# Altium footprint library Flanery.PcbLib: 125 footprints (part 7 of 8)
Each footprint in its own frame and in the unit in brackets; x right, y up, seen from the top. Pads: shape width x height; smd on the part's side, far side on the other; paste and mask are expansions set on the pad; w line width, h text height; cw(c..) or ccw(c..) is an arc to the next point about the centre after c.
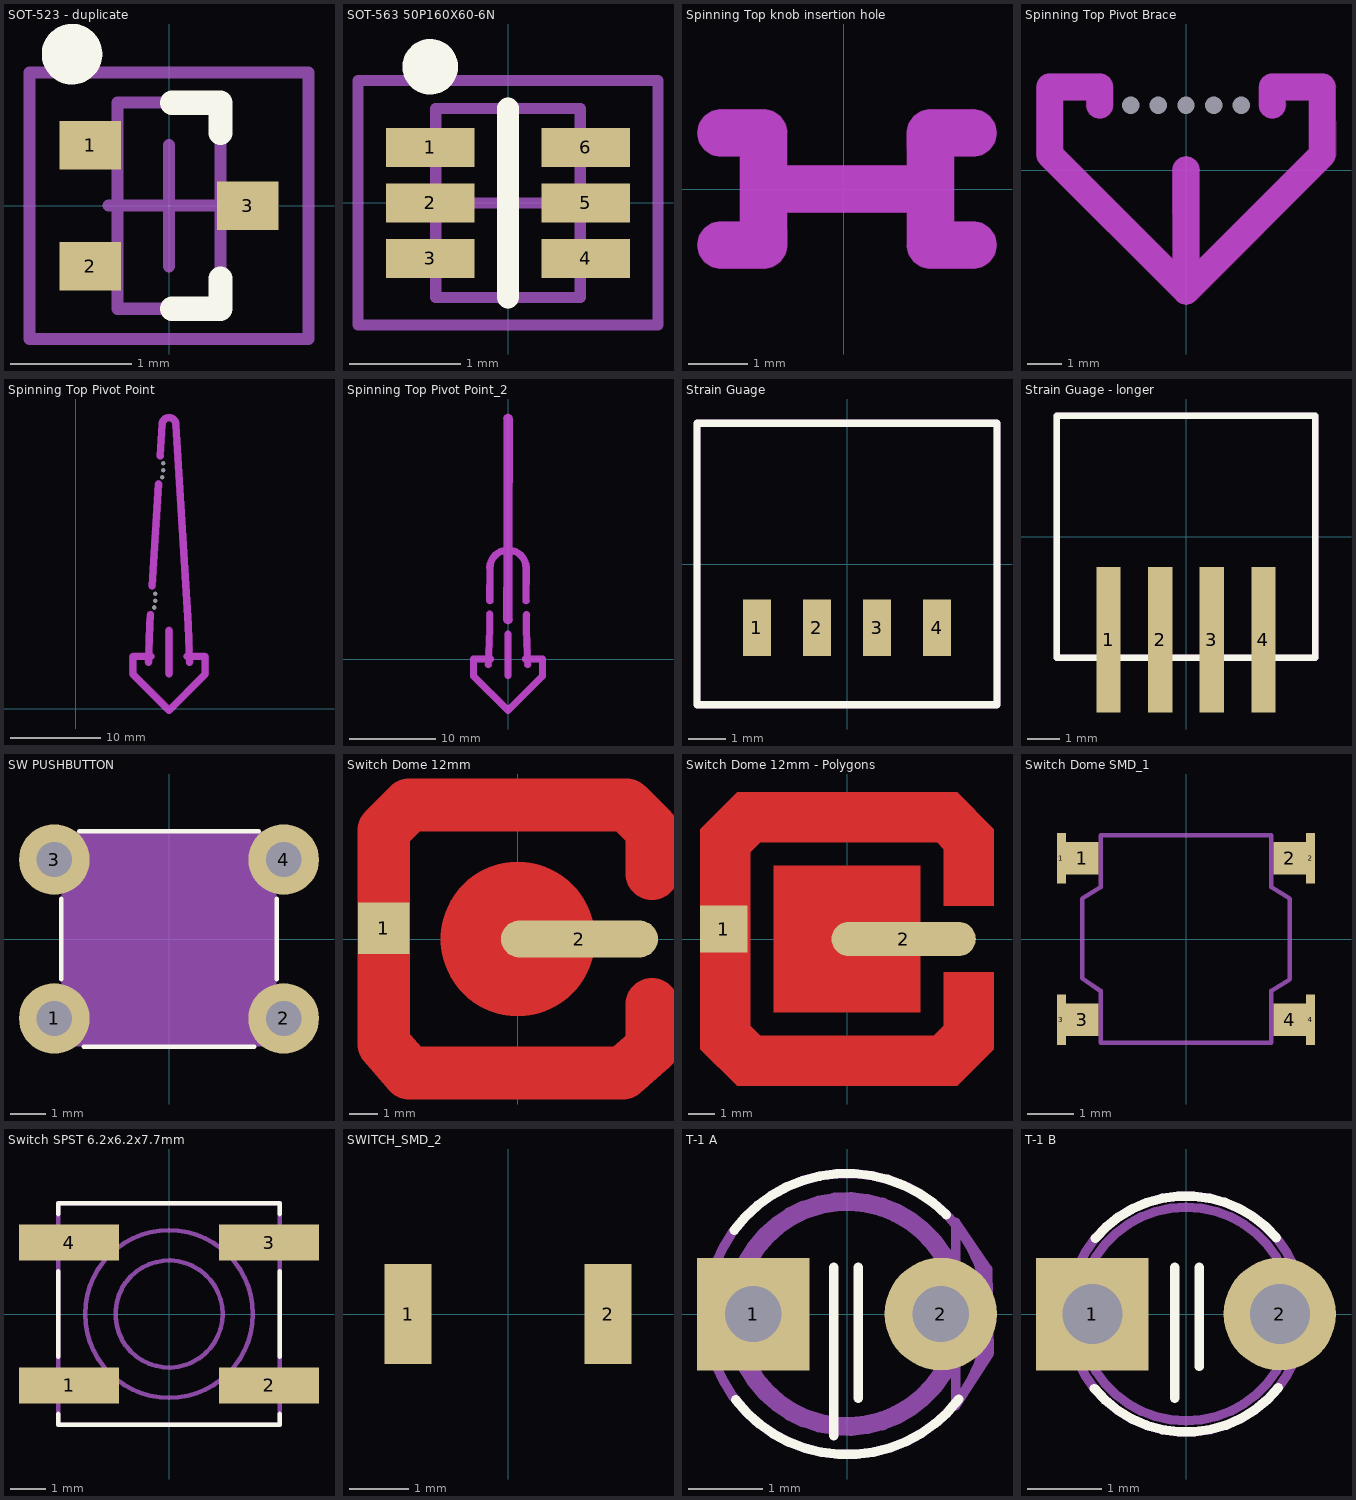
[diagram p6: the footprints below, top view; thin cyan lines are the x and y axes]

## SOT-523 - duplicate [mm] "For Diodes Inc MOSFET DMN5L06TK"
height 0.8
pads (3):
  rect 0.51x0.4 smd: 1(-0.65,0.5) 2(-0.65,-0.5) 3(0.65,0)
Top Overlay:
  circle w0.25: c-0.8,1.25 r0.125
  lines w0.2: 0.025,-0.85 0.425,-0.85 0.425,-0.6 ; 0.025,0.85 0.425,0.85 0.425,0.6
Mechanical 13:
  lines w0.1: -0.425,-0.85 0.425,-0.85 0.425,0.85 -0.425,0.85 -0.425,-0.85
Mechanical 15:
  lines w0.1: -0.5,0 0.5,0 ; 0,-0.5 0,0.5 ; -1.15,-1.1 1.15,-1.1 1.15,1.1 -1.15,1.1 -1.15,-1.1
3D body: height 0.8, standoff 0.05, extent -0.425,-0.85 0.425,0.85

## SOT-563 50P160X60-6N [mm] "SOT-563, 6-Leads, Body 1.7x1.7mm (max), Pitch 0.50mm, IPC Medium Density"
height 0.6
pads (6):
  rect 0.8x0.35 smd: 1(-0.7,0.5) 2(-0.7,0) 3(-0.7,-0.5) 4(0.7,-0.5) 5(0.7,0) 6(0.7,0.5)
Top Overlay:
  circle w0.25: c-0.7,1.225 r0.125
  lines w0.2: 0,-0.85 0,0.85 0,-0.85
Mechanical 13:
  lines w0.1: -0.65,-0.85 -0.65,0.85 0.65,0.85 0.65,-0.85 -0.65,-0.85
Mechanical 15:
  lines w0.1: -0.5,0 0.5,0 ; 0,-0.5 0,0.5 ; -1.35,-1.1 -1.35,1.1 1.35,1.1 1.35,-1.1 -1.35,-1.1
3D body: height 0.6, standoff 0.05, extent -0.65,-0.85 0.65,0.85

## Spinning Top knob insertion hole [mm] "For 31-mil PCB"
Keep-Out Layer:
  board cut-out: -2.057,-1.342 -2.211,-1.311 -2.342,-1.224 -2.429,-1.094 -2.459,-0.94 -2.429,-0.786 -2.342,-0.656 -2.211,-0.569 -2.057,-0.538 -2.057,-0.546 -1.74,-0.546 -1.74,0.546 -2.057,0.538 -2.211,0.569 -2.342,0.656 -2.429,0.786 -2.459,0.94 -2.429,1.094 -2.342,1.224 -2.211,1.311 -2.057,1.342 -2.057,1.334 -1.346,1.342 -1.192,1.311 -1.062,1.224 -0.975,1.094 -0.944,0.94 -0.952,0.94 -0.952,0.394 1.054,0.394 1.046,0.94 1.077,1.094 1.164,1.224 1.294,1.311 1.448,1.342 1.448,1.334 2.159,1.342 2.313,1.311 2.443,1.224 2.53,1.094 2.561,0.94 2.53,0.786 2.443,0.656 2.313,0.569 2.159,0.538 2.159,0.546 1.842,0.546 1.842,-0.546 2.159,-0.538 2.313,-0.569 2.443,-0.656 2.53,-0.786 2.561,-0.94 2.53,-1.094 2.443,-1.224 2.313,-1.311 2.159,-1.342 2.159,-1.334 1.448,-1.342 1.294,-1.311 1.164,-1.224 1.077,-1.094 1.046,-0.94 1.054,-0.94 1.054,-0.394 -0.952,-0.394 -0.944,-0.94 -0.975,-1.094 -1.062,-1.224 -1.192,-1.311 -1.346,-1.342 -1.346,-1.334
Mechanical 3:
  lines w0.787: -2.057,-0.94 -1.346,-0.94 -1.346,0 ; -2.057,0.94 -1.346,0.94 -1.346,0 ; 2.159,-0.94 1.448,-0.94 1.448,0 ; 2.159,0.94 1.448,0.94 1.448,0 ; -1.346,0 1.448,0
Mechanical 13:
  lines w0.025: -1.727,-0.381 1.829,-0.381 1.829,0.381 -1.727,0.381 -1.727,-0.381

## Spinning Top Pivot Brace [mil] "For stabilizing the pivot point"
pads (5):
  round 0 hole 20 unplated mask+10: 0(64,75) 1(-32,75) 1(32,75) 2(-64,75) 2(0,75)
Keep-Out Layer:
  board cut-out: -169.06,6.69 -172.49,11.82 -173.69,17.87 -173.39,17.87 -173.69,96.22 -172.49,102.27 -169.06,107.41 -163.93,110.84 -157.87,112.04 -157.87,111.74 -100,112.04 -93.95,110.84 -88.81,107.41 -85.39,102.27 -84.18,96.22 -84.48,96.22 -84.18,75 -85.39,68.95 -88.81,63.81 -93.95,60.39 -100,59.18 -106.05,60.39 -111.19,63.81 -114.61,68.95 -115.82,75 -115.52,75 -115.52,80.71 -142.36,80.71 -142.36,24.3 -15.52,-102.54 -15.82,0 -14.61,6.05 -11.19,11.19 -6.05,14.61 0,15.82 6.05,14.61 11.19,11.19 14.61,6.05 15.82,0 15.52,0 15.52,-102.54 142.36,24.3 142.36,80.71 115.52,80.71 115.82,75 114.61,68.95 111.19,63.81 106.05,60.39 100,59.18 93.95,60.39 88.81,63.81 85.39,68.95 84.18,75 84.48,75 84.18,96.22 85.39,102.27 88.81,107.41 93.95,110.84 100,112.04 100,111.74 157.87,112.04 163.93,110.84 169.06,107.41 172.49,102.27 173.69,96.22 173.39,96.22 173.69,17.87 172.49,11.82 169.06,6.69 168.84,6.9 11.19,-151.19 6.05,-154.61 0,-155.82 -6.05,-154.61 -11.19,-151.19 -10.97,-150.97
Mechanical 3:
  lines w31: -100,75 -100,96.22 -157.87,96.22 -157.87,17.87 0,-140 ; 0,0 0,-140 ; 100,75 100,96.22 157.87,96.22 157.87,17.87 0,-140

## Spinning Top Pivot Point [mil] "Snap-out Arrow for spinning top"
pads (6):
  round 0 hole 20 unplated mask+10: 0(347.26,502.74) 0(382.26,1072.74) 1(347.26,472.74) 1(382.26,1042.74) 2(342.26,442.74) 2(377.26,1012.74)
Keep-Out Layer:
  drawing of 3 lines, arcs and shapes, not listed
Mechanical 3:
  lines w31: 317.26,202.74 323.15,367.55 325.92,412.44 ; 328.52,228.96 249.39,228.96 249.39,150.61 407.26,-7.26 565.14,150.61 565.14,228.96 486,228.96 ; 333.61,536.75 361.23,983.45 ; 368.82,1106.24 377.26,1242.74 cw(c407.26,1242.74) 437.26,1242.74 ; 407.26,152.74 407.26,342.74 ; 437.33,1240.96 491.44,365.77 497.26,202.74

## Spinning Top Pivot Point_2 [mm] "Snap-out Arrow for spinning top with wire handle"
height 0.787
Keep-Out Layer:
  drawing of 3 lines, arcs and shapes, not listed
Mechanical 1:
  text "41 mil wire rod" at 2.2,18.3 h2.03
Mechanical 3:
  pour cut-out: -2.502,6.827 -2.471,6.673 -2.384,6.543 -2.254,6.456 -2.1,6.425 -1.946,6.456 -1.816,6.543 -1.729,6.673 -1.698,6.827 -1.706,6.827 -1.714,10.627 -1.681,10.961 -1.584,11.283 -1.425,11.579 -1.212,11.839 -0.952,12.052 -0.656,12.211 -0.521,12.252 -0.521,12.251 -0.531,4.622 -0.491,4.419 -0.376,4.246 -0.203,4.131 0,4.091 0.203,4.131 0.376,4.246 0.491,4.419 0.531,4.622 0.521,4.622 0.521,12.252 0.656,12.211 0.952,12.052 1.212,11.839 1.425,11.579 1.584,11.283 1.681,10.961 1.714,10.627 1.706,10.627 1.698,6.827 1.729,6.673 1.816,6.543 1.946,6.456 2.1,6.425 2.254,6.456 2.384,6.543 2.471,6.673 2.502,6.827 2.494,6.827 2.506,10.627 2.458,11.116 2.315,11.586 2.084,12.019 1.772,12.399 1.392,12.711 0.959,12.942 0.523,13.075 0.521,13.066 0.531,28.027 0.491,28.23 0.376,28.403 0.203,28.518 0,28.558 -0.203,28.518 -0.376,28.403 -0.491,28.23 -0.531,28.027 -0.521,28.027 -0.523,13.075 -0.959,12.942 -1.392,12.711 -1.772,12.399 -2.084,12.019 -2.315,11.586 -2.458,11.116 -2.506,10.627 -2.494,10.627
  lines w0.787: -2.286,-0.608 -2.136,3.578 -2.136,5.278 ; -2.1,6.827 -2.1,10.627 cw(c0,10.627) 2.1,10.627 2.1,6.827 ; -2,0.058 -4.01,0.058 -4.01,-1.932 0,-5.942 4.01,-1.932 4.01,0.058 2,0.058 ; 0,-1.878 0,2.948 ; 2.138,5.233 2.138,3.533 2.286,-0.608
  lines w1.041: 0,4.622 0,28.027
3D body: height 0.1, standoff -0.89, extent -0.5,4.7 0.489,28.068

## Strain Guage [mm] "Omega SGD-2/1000-DY41"
height 0.2
pads (4):
  rect 0.75x1.5 smd: 1(-2.4,-1.7) 2(-0.8,-1.7) 3(0.8,-1.7) 4(2.4,-1.7)
Top Overlay:
  lines w0.2: -4,-3.75 -4,3.75 4,3.75 4,-3.75 -4,-3.75
Mechanical 1:
  lines w0.2: -4,-3.75 4,-3.75 4,3.75 -4,3.75 -4,-3.75
3D body: height 0.2, standoff 0.01, extent -4,-3.75 4,3.75

## Strain Guage - longer [mm] "Omega SGD-2/1000-DY41"
height 0.2
pads (4):
  rect 0.75x4.5 smd: 1(-2.4,-3.2) 2(-0.8,-3.2) 3(0.8,-3.2) 4(2.4,-3.2)
Top Overlay:
  lines w0.2: -4,-3.75 -4,3.75 4,3.75 4,-3.75 -4,-3.75
Mechanical 1:
  lines w0.2: -4,-3.75 4,-3.75 4,3.75 -4,3.75 -4,-3.75
3D body: height 0.2, standoff 0.01, extent -4,-3.75 4,3.75

## SW PUSHBUTTON [mm] "SPST THROUGH-HOLE, TALL BUTTON"
height 9.5
pads (4):
  round 2 hole 1: 1(-3.25,-2.25) 2(3.25,-2.25) 3(-3.25,2.25) 4(3.25,2.25)
Top Overlay:
  lines w0.127: -3.048,-1.143 -3.048,1.143 ; -2.54,3.048 2.54,3.048 ; -2.413,-3.048 2.413,-3.048 ; 3.048,-1.143 3.048,1.143
Mechanical 13:
  circle w0.127: c0,0 r1.818
  rectangle: -3.048,-3.048 3.048,3.048
3D body: height 4, standoff 0, extent -3.048,-3.048 3.048,3.048
3D body: height 9.5, standoff 0, extent -1.827,-1.827 1.827,1.827

## Switch Dome 12mm [mm] "Snaptron Dome Switch singoe-side layout"
height 0.69
pads (2):
  rect 1.8x1.8 smd paste-2: 1(-4.699,0.381)
  rrect100% 5.5x1.3 smd paste-2: 2(2.159,0)
Top Layer:
  circle w4.9: c0,0 r0.254
  lines w1.85: 4.699,-2.286 4.699,-3.81 3.683,-4.699 -3.81,-4.699 -4.699,-3.683 -4.699,3.81 -3.81,4.699 3.81,4.699 4.699,3.81 4.699,2.286
Top Solder:
  circle w5: c0,0 r0.359
  lines w2.1: 4.699,-2.286 4.699,-3.81 3.683,-4.699 -3.81,-4.699 -4.699,-3.683 -4.699,3.81 -3.81,4.699 3.81,4.699 4.699,3.81 4.699,2.286
3D body: height 0.67, standoff -0.02, extent -5.08,-5.053 5.026,5.053

## Switch Dome 12mm - Polygons [mm] "Snaptron Dome Switch singoe-side layout"
height 0.69
pads (2):
  rect 1.8x1.8 smd paste-2: 1(-4.699,0.381)
  rrect100% 5.5x1.3 smd paste-2: 2(2.159,0)
Top Layer:
  rectangle: -2.794,-2.794 2.794,2.794
  region: -4.191,5.588 -5.588,4.191 -5.588,-4.191 -4.191,-5.588 4.191,-5.588 5.588,-4.191 5.588,-1.27 3.683,-1.27 3.683,-3.302 3.302,-3.683 -3.302,-3.683 -3.683,-3.302 -3.683,3.302 -3.302,3.683 3.429,3.683 3.683,3.429 3.683,1.27 5.588,1.27 5.588,4.191 4.191,5.588
Top Solder:
  rectangle: -2.921,-2.921 2.921,2.921
  region: -4.318,5.715 -5.715,4.318 -5.715,-4.318 -4.318,-5.715 4.318,-5.715 5.715,-4.318 5.715,-1.143 3.556,-1.143 3.556,-3.175 3.175,-3.556 -3.175,-3.556 -3.556,-3.175 -3.556,3.175 -3.175,3.556 3.302,3.556 3.556,3.302 3.556,1.143 5.715,1.143 5.715,4.318 4.318,5.715
3D body: height 0.67, standoff -0.02, extent -5.08,-5.053 5.026,5.053

## Switch Dome SMD_1 [mm] "4-pin SMD Dome Switch EG4622CT-ND"
height 0.55
pads (8):
  rect 0.2x1.1 smd: 1(-2.7,1.75) 2(2.7,1.75) 3(-2.7,-1.75) 4(2.7,-1.75)
  rect 0.7x0.7 smd: 1(-2.25,1.75) 2(2.25,1.75) 3(-2.25,-1.75) 4(2.25,-1.75)
Mechanical 1:
  lines w0.1: -2.25,-0.85 -1.85,-1.125 -1.85,-2.25 1.85,-2.25 1.85,-1.125 2.25,-0.875 2.25,0.875 1.85,1.125 1.85,2.25 -1.85,2.25 -1.85,1.125 -2.25,0.875 -2.25,-0.85
3D body: height 0.55, standoff 0.01, extent -2.251,-2.226 2.251,2.276
3D body: height 0.6, standoff 0, extent -1.743,-1.75 1.743,1.743

## Switch SPST 6.2x6.2x7.7mm [mm] "C&K Components KSCxxxJxxx (J-wing)"
height 7.7
pads (4):
  rect 2.8x1 smd: 1(-2.8,-2) 2(2.8,-2) 3(2.8,2) 4(-2.8,2)
Top Overlay:
  lines w0.127: -3.1,-2.8 -3.1,-3.1 3.1,-3.1 3.1,-2.8 ; -3.1,-1.2 -3.1,1.2 ; -3.1,2.8 -3.1,3.1 3.1,3.1 3.1,2.8 ; 3.1,-1.2 3.1,1.2
Mechanical 1:
  circle w0.127: c0,0 r2.35
  circle w0.127: c0,0 r1.5
  lines w0.127: -3.1,-3.1 3.1,-3.1 3.1,3.1 -3.1,3.1 -3.1,-3.1
3D body: height 7.7, standoff 0, extent -1.507,-1.507 1.507,1.507
3D body: height 4.1, standoff 0, extent -2.361,-2.361 2.361,2.361
3D body: height 2.5, standoff 0, extent -3.099,-3.099 3.099,3.099

## SWITCH_SMD_2 [mm] "Tiny, no boss, no GND, Omron B3U-1000P"
height 1.6
pads (2):
  rect 0.8x1.7 smd mask+0.102: 1(-1.7,0) 2(1.7,0)
3D body: height 1.7, standoff 0.1, extent -0.75,-0.75 0.744,0.747
3D body: height 1.2, standoff 0.08, extent -1.5,-1.25 1.5,1.25

## T-1 A [mil] "3mm LED, phototransistor, photodiode"
height 242.13
pads (2):
  rect 60x60 / inner round 60 / far side rect 60x60 hole 30: 1(-50,0)
  round 60 hole 30: 2(50,0)
Top Overlay:
  lines w5: -60.23,44.69 cw(c0,0) 53.03,53.03 ; -59.37,-45.83 ccw(c0,0) 59.61,-45.52 ; -7,-65 -7,25 ; 6,-45 6,25
Mechanical 13:
  circle w5: c0,0 r75
  circle w10: c0,0 r60
  lines w5: 58,-49 58,49 75,24 76,-21 58,-49
3D body: height 242.13, standoff 0, extent -60.27,-60.27 56.61,60.27
3D body: height 30, standoff 0, extent -75.34,-75.34 58.01,75.34

## T-1 B [mil] "3mm LED, phototransistor, photodiode"
height 213
pads (2):
  rect 60x60 / inner round 60 / far side rect 60x60 hole 32: 1(-50,0)
  round 60 hole 32: 2(50,0)
Top Overlay:
  lines w5: -48.9,-39.73 ccw(c0,0) 49.19,-39.36 ; -48.32,40.43 cw(c0,0) 48.16,40.61 ; -6,-45 -6,25 ; 7,-28 7,25
Mechanical 13:
  circle w5: c0,0 r63
  circle w5: c0,0 r57
3D body: height 181, standoff 0, extent -57.47,-57.47 57.47,57.47
3D body: height 40, standoff 0, extent -63.28,-63.28 63.28,63.28